# EAGLE library part MQ-X (library SteelCaveRobotics-Sensors)
MQ-X Gas Sensor
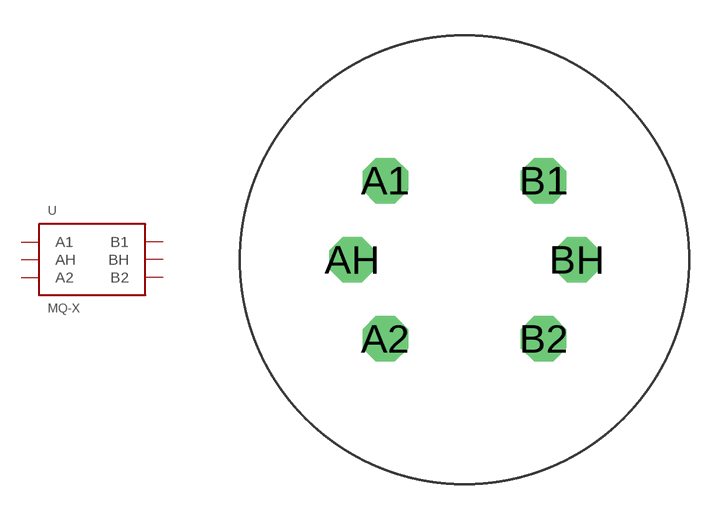
[diagram p0: symbol with the pads of MQ-X; footprint MQ-X]

Designator prefix -

## MQ-X  [MQ-X]
A1  A1
A2  A2
AH  AH
B1  B1
B2  B2
BH  BH

## Footprint MQ-X (pad centres in mm)
MQ-X Gas Sensor
drill 1.1 pad 1.93 octagon: A1 -3.35,3.35; A2 -3.35,-3.35; AH -4.75,0; B1 3.35,3.35; B2 3.35,-3.35; BH 4.75,0